# Altium footprint library B4B-PH-SM4-TB.PcbLib: 1 footprints
Each footprint in its own frame and in the unit in brackets; x right, y up, seen from the top. Pads: shape width x height; smd on the part's side, far side on the other; paste and mask are expansions set on the pad; w line width, h text height; cw(c..) or ccw(c..) is an arc to the next point about the centre after c.
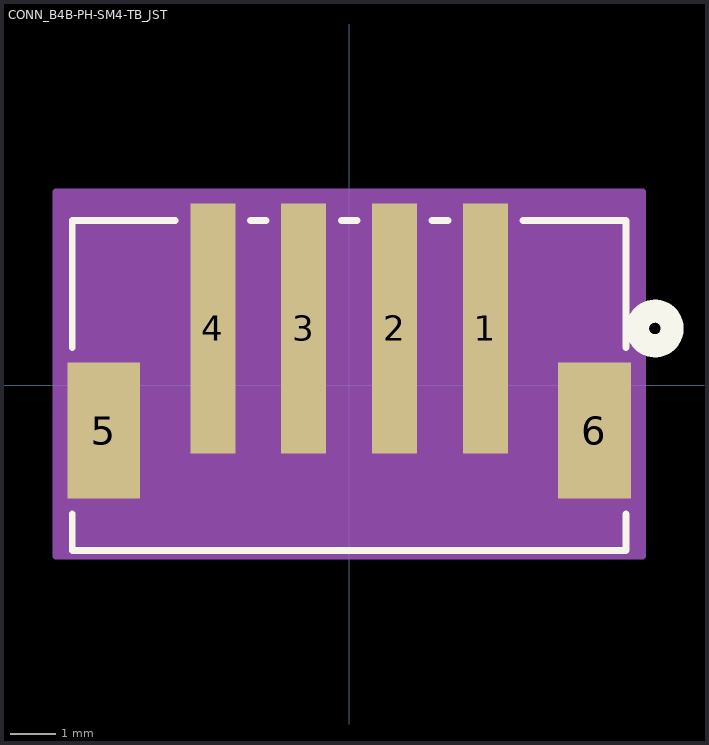
[diagram p0: the footprint, top view; thin cyan lines are the x and y axes]

## CONN_B4B-PH-SM4-TB_JST [mil]
pads (6):
  rect 39x217 smd paste+0 mask+0: 1(118.11,49.42) 2(39.37,49.42) 3(-39.37,49.42) 4(-118.11,49.42)
  rect 63x118 smd paste-59 mask-59: 5(-212.6,-39.17) 6(212.6,-39.17)
Top Overlay:
  circle w20: c265,49.42 r15
  lines w6: -240,-111.27 -240,-143 240,-143 240,-111.27 ; -240,32.93 -240,143 -150.71,143 ; -85.51,143 -71.97,143 ; -6.77,143 6.77,143 ; 71.97,143 85.51,143 ; 150.71,143 240,143 240,32.93
Bottom Overlay:
  circle w20: c265,49.42 r15
Mechanical 13:
  circle w20: c118.11,124.42 r15
  lines w1: -235,-138 235,-138 235,138 -235,138 -235,-138
Mechanical 15:
  region: 254.1,167.92 -254.1,167.92 -254.1,-148 254.1,-148
  lines w6: -254.1,-148 -254.1,167.92 254.1,167.92 254.1,-148 -254.1,-148
3D body "B4B-PH-SM4-TB.step": height 265.75, standoff 0, extent -242.94,-127.96 227.53,147.63